# Altium footprint library 1.8inch_14pin_QDTFT1801.PcbLib: 1 footprints
Each footprint in its own frame and in the unit in brackets; x right, y up, seen from the top. Pads: shape width x height; smd on the part's side, far side on the other; paste and mask are expansions set on the pad; w line width, h text height; cw(c..) or ccw(c..) is an arc to the next point about the centre after c.
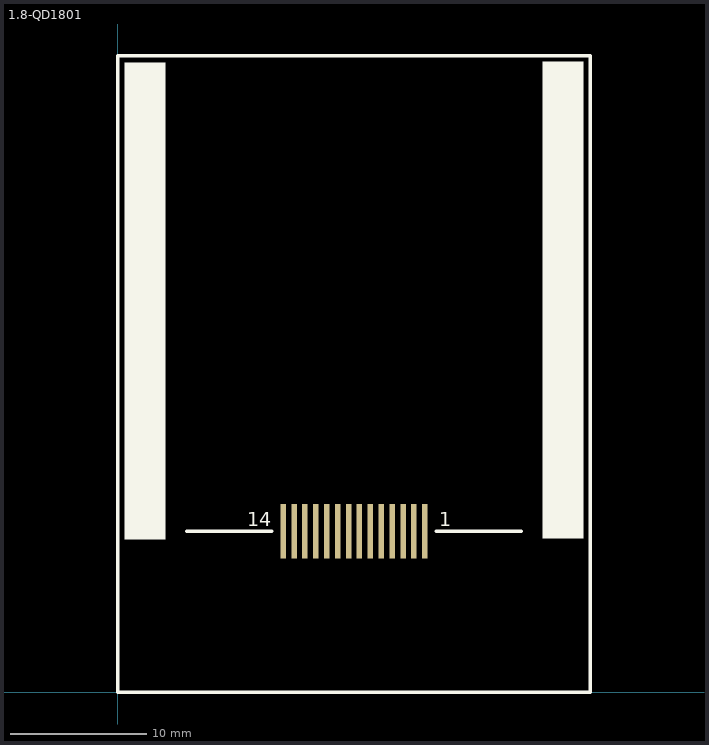
[diagram p0: the footprint, top view; thin cyan lines are the x and y axes]

## 1.8-QD1801 [mm] "1.8inch TFT LCD"
pads (14):
  rect 0.4x4 smd: 1(22.55,11.8) 2(21.75,11.8) 3(20.95,11.8) 4(20.15,11.8) 5(19.35,11.8) 6(18.55,11.8) 7(17.75,11.8) 8(16.95,11.8) 9(16.15,11.8) 10(15.35,11.8) 11(14.55,11.8) 12(13.75,11.8) 13(12.95,11.8) 14(12.15,11.8)
Top Overlay:
  region: 34.2,46.291 31.2,46.291 31.2,11.291 34.2,11.291
  rectangle: 0.5,11.2 3.5,46.2
  lines w0.254: 5.08,11.8 11.303,11.8 ; 23.396,11.8 29.619,11.8 ; 0,0 0,46.7 34.7,46.7 34.7,0 0,0
  text "1" at 23.622,12.192 h1.02
  text "14" at 9.525,12.192 h1.02